# Altium footprint library SOD_123FL.PcbLib: 1 footprints
Each footprint in its own frame and in the unit in brackets; x right, y up, seen from the top. Pads: shape width x height; smd on the part's side, far side on the other; paste and mask are expansions set on the pad; w line width, h text height; cw(c..) or ccw(c..) is an arc to the next point about the centre after c.
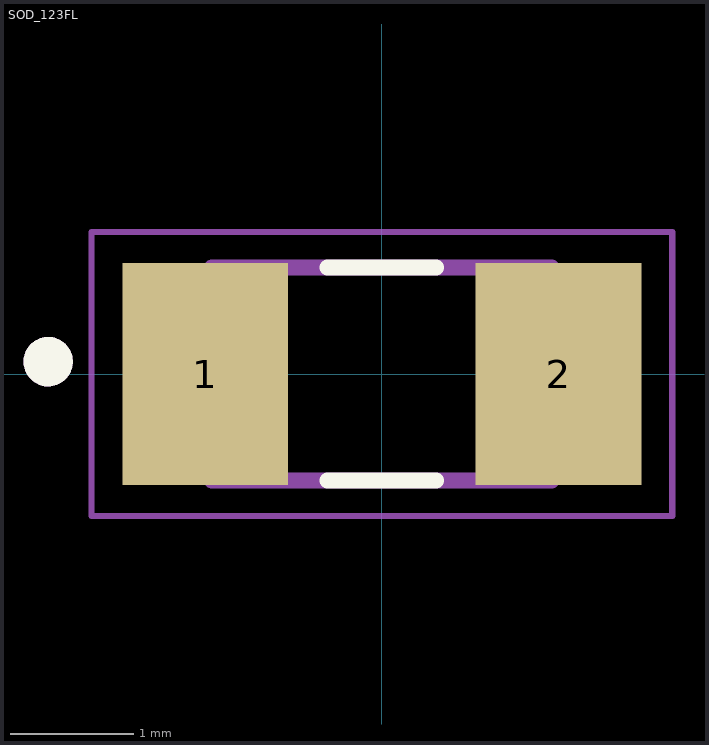
[diagram p0: the footprint, top view; thin cyan lines are the x and y axes]

## SOD_123FL [mm]
height 1.08
pads (2):
  rect 1.34x1.8 smd: 1(-1.43,0) 2(1.43,0)
Top Overlay:
  circle w0.2: c-2.7,0.1 r0.1
  lines w0.127: -0.44,-0.863 0.44,-0.863 ; -0.44,0.863 0.44,0.863
Assembly Top:
  circle w0.2: c-2.7,0.1 r0.1
  lines w0.127: -1.375,-0.863 -1.375,0.863 1.375,0.863 1.375,-0.863 -1.375,-0.863
Top Courtyard:
  lines w0.05: -2.35,-1.15 2.35,-1.15 2.35,1.15 -2.35,1.15 -2.35,-1.15
3D body "step_temp.STEP": height 1.08, standoff 0, extent -1.8,-0.863 1.8,0.863